# EAGLE library part USB_MICRO (library Connectors > USB)
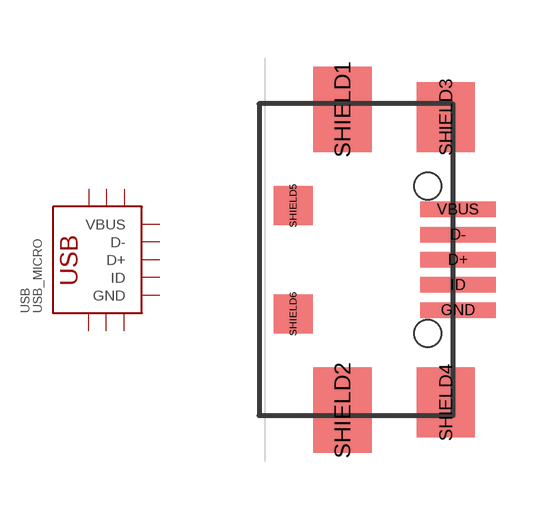
[diagram p2: symbol with the pads of USB-MICRO-SMD; footprint USB-MICRO-SMD]

Designator prefix USB

## USB_MICRO-MICRO-B-SMT  [USB-MICRO-SMD]
D+  D+
D-  D-
GND  GND
ID  ID
SHIELD1  SHIELD
SHIELD2  SHIELD
SHIELD3  SHIELD
SHIELD4  SHIELD
SHIELD5  SHIELD
SHIELD6  SHIELD
VBUS  VBUS

## Footprint USB-MICRO-SMD (pad centres in mm)
smd 1.95 x 0.4: D+ 2.975,0; D- 2.975,0.65; GND 2.975,-1.3; ID 2.975,-0.65; VBUS 2.975,1.3
smd 1.5 x 2.2: SHIELD1 0,3.885; SHIELD2 0,-3.885
smd 1.5 x 1.8: SHIELD3 2.667,3.685; SHIELD4 2.667,-3.685
smd 1 x 1: SHIELD5 -1.27,1.4; SHIELD6 -1.27,-1.4
hole 0.7 at 2.2,1.9
hole 0.7 at 2.2,-1.9